# Altium footprint library 晶振封装库.PcbLib: 82 footprints (part 1 of 6)
Each footprint in its own frame and in the unit in brackets; x right, y up, seen from the top. Pads: shape width x height; smd on the part's side, far side on the other; paste and mask are expansions set on the pad; w line width, h text height; cw(c..) or ccw(c..) is an arc to the next point about the centre after c.
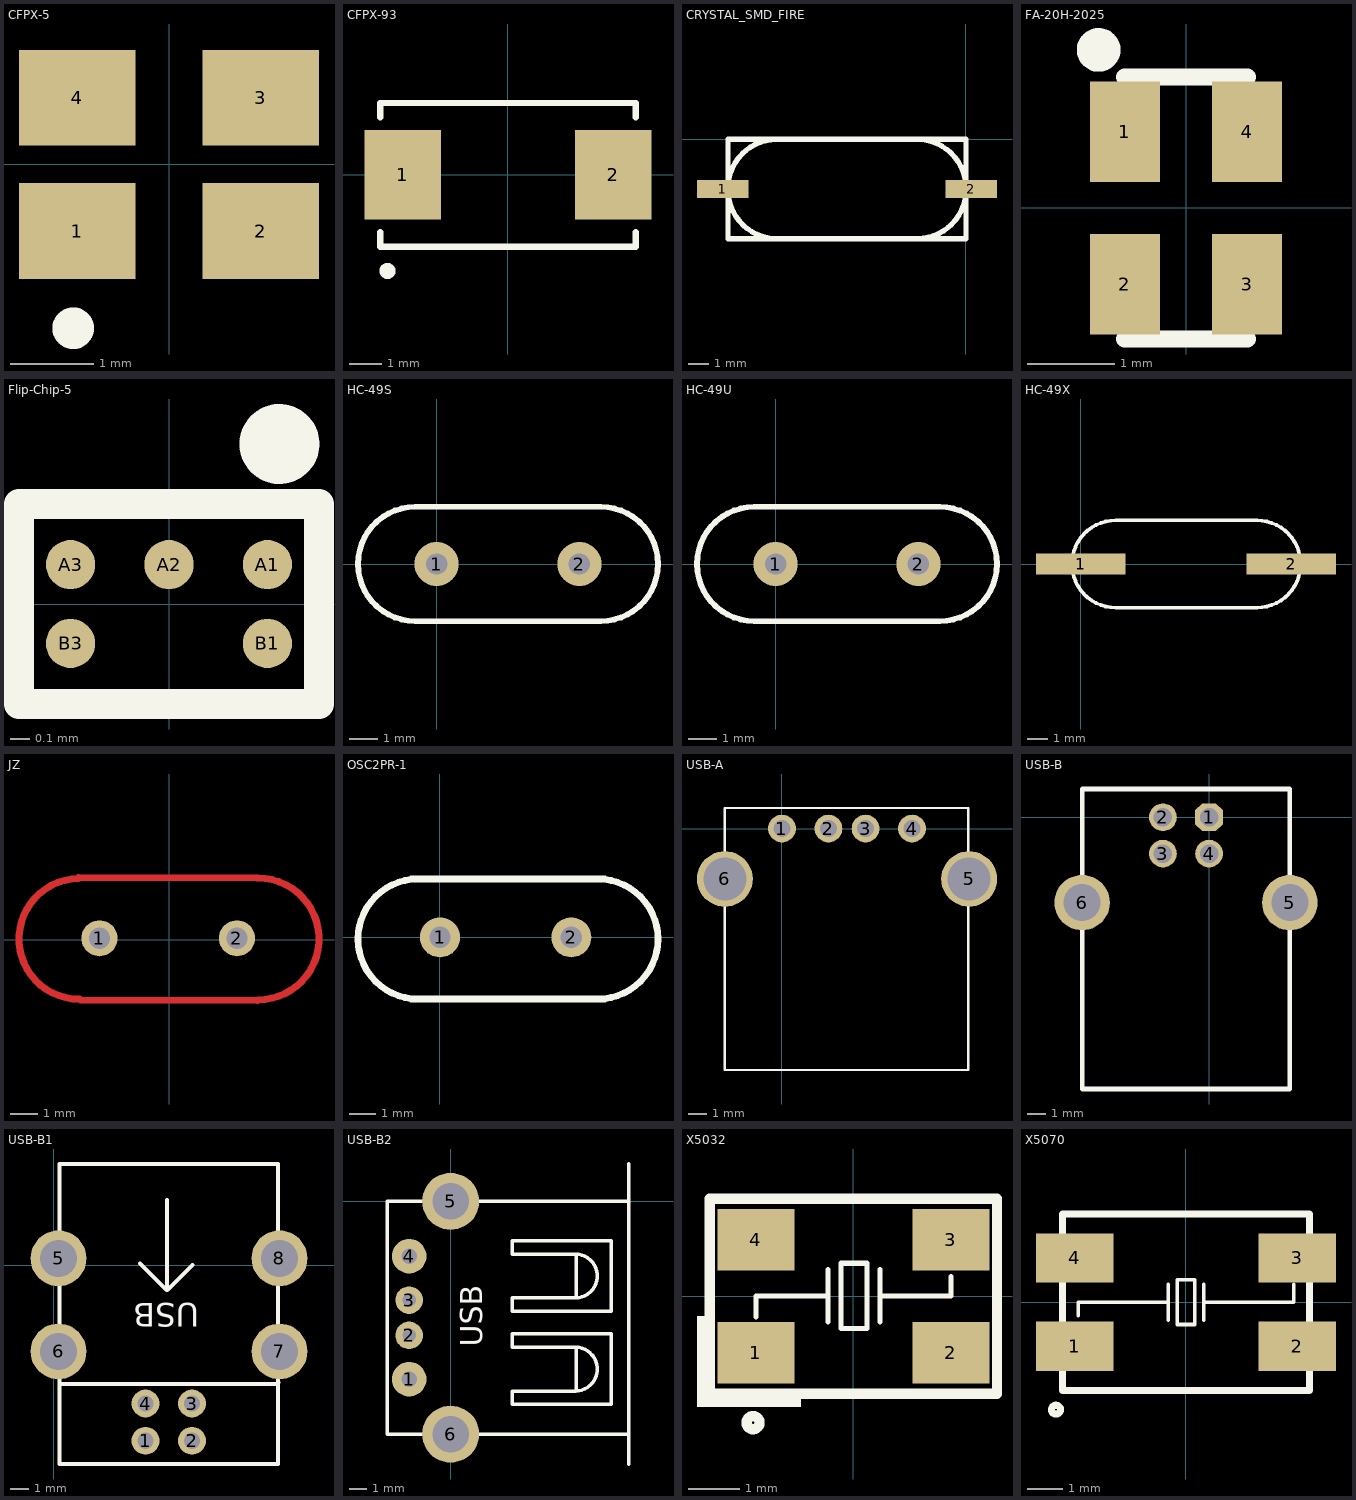
[diagram p0: the footprints below, top view; thin cyan lines are the x and y axes]

## CFPX-5 [mm]
pads (4):
  rect 1.4x1.15 smd: 1(-1.1,-0.8) 2(1.1,-0.8) 3(1.1,0.8) 4(-1.1,0.8)
Top Overlay:
  circle w0.25: c-1.15,-1.967 r0.125

## CFPX-93 [mm]
pads (2):
  rect 2.4x2.8 smd: 1(-3.3,0) 2(3.3,0)
Top Overlay:
  circle w0.25: c-3.775,-3.011 r0.125
  lines w0.2: -4,-1.8 -4,-2.25 4,-2.25 4,-1.8 ; -4,1.8 -4,2.25 4,2.25 4,1.8

## CRYSTAL_SMD_FIRE [mm]
pads (2):
  rect 2.5x0.85 smd: 1(-11.75,-2.4) 2(0.25,-2.4)
Top Overlay:
  lines w0.254: -11.5,-2.469 -11.5,-2.4 ; -11.5,-2.468 ccw(c-9.135,-2.435) -9.102,-4.8 ; -11.5,-2.398 cw(c-9.135,-2.365) -9.168,0 ; -2.398,0 cw(c-2.365,-2.365) 0,-2.332 ; -2.332,-4.8 ccw(c-2.365,-2.435) 0,-2.402 ; 0,-2.4 0,-2.331 ; -11.5,-4.8 -11.5,0 0,0 0,-4.8 -11.5,-4.8

## FA-20H-2025 [mm]
height 0.5
pads (4):
  rect 0.8x1.15 smd: 1(-0.7,0.875) 2(-0.7,-0.875) 3(0.7,-0.875) 4(0.7,0.875)
Top Overlay:
  circle w0.25: c-1,1.81 r0.125
  lines w0.2: -0.7,-1.5 0.7,-1.5 ; -0.7,1.5 0.7,1.5
3D body "FA-20H-2025.STEP": height 0.5, standoff 0, extent -1.005,-1.25 0.995,1.25

## Flip-Chip-5 [mm]
height 0.69
pads (5):
  round 0.25 smd mask+0.05: A1(0.5,0.2) A2(0,0.2) A3(-0.5,0.2) B1(0.5,-0.2) B3(-0.5,-0.2)
Top Overlay:
  circle w0.203: c0.561,0.813 r0.102
  lines w0.152: -0.762,-0.508 0.762,-0.508 0.762,0.508 -0.762,0.508 -0.762,-0.508
3D body "FlipChip-5.STEP": height 0.69, standoff 0, extent -0.693,-0.425 0.693,0.43

## HC-49S [mil]
pads (2):
  round 62 hole 30: 1(0,0) 2(200,0)
Top Overlay:
  lines w8: -30,-80 cw(c-30,0) -30,80 230,80 cw(c230,0) 230,-80 -30,-80

## HC-49U [mil]
pads (2):
  round 62 hole 30: 1(0,0) 2(200,0)
Top Overlay:
  lines w8: -30,-80 cw(c-30,0) -30,80 230,80 cw(c230,0) 230,-80 -30,-80

## HC-49X [mm]
pads (2):
  rect 4.3x1 smd: 1(0,0) 2(10.135,0)
Top Overlay:
  lines w0.178: 1.68,-2.1 cw(c1.68,0) 1.68,2.1 8.48,2.1 cw(c8.48,0) 8.48,-2.1 1.68,-2.1

## JZ [mm]
pads (2):
  round 1.3 hole 0.762: 1(-2.517,0.055) 2(2.436,0.055)
Top Layer:
  lines w0.254: -3.274,2.24 3.16,2.22 ; -3.272,2.208 ccw(c-3.24,0.034) -3.24,-2.14 ; -3.2,-2.16 3.18,-2.18 ; 3.2,-2.16 ccw(c3.2,0.032) 3.2,2.225

## OSC2PR-1 [mil]
pads (2):
  round 60 hole 32: 1(0.42,-0.46) 2(197.42,-0.46)
Top Overlay:
  lines w10: -42.58,-92.96 247.42,-92.96 ; -42.58,87.04 247.42,87.04 ; -32.58,-92.96 cw(c-32.58,-2.96) -32.58,87.04 ; 237.42,-92.96 ccw(c237.42,-2.96) 237.42,87.04

## USB-A [mm]
pads (6):
  round 1.5 hole 0.92: 1(0.004,0.013) 2(2.504,0.013) 3(4.504,0.013) 4(7.004,0.013)
  round 3 hole 2.3: 5(10.074,-2.697) 6(-3.066,-2.697)
Top Overlay:
  lines w0.127: -3.066,-12.977 -3.066,-2.697 -3.066,1.123 10.034,1.123 10.034,-12.977 -3.066,-12.977

## USB-B [mil]
pads (6):
  oct 60x60 hole 40: 1(0.02,-0.17)
  round 60 hole 40: 2(-99.98,-0.17) 3(-99.98,-78.91) 4(0.02,-78.91)
  round 120 hole 80: 5(175.02,-185.2) 6(-274.98,-185.2)
Top Overlay:
  lines w10: -274.98,-588.91 175.02,-588.91 175.02,61.09 -274.98,61.09 -274.98,-588.91

## USB-B1 [mil]
pads (8):
  round 60 hole 35: 1(197,-377) 2(297,-377) 3(297,-297) 4(197,-297)
  round 120 hole 80: 5(10,15) 6(10,-185) 7(485,-185) 8(485,15)
Top Overlay:
  lines w8: 12,-255 482,-255 483,-251 ; 185,4 241,-52 ; 243,-53 243,141 ; 244,-53 298,1 ; 12,-427 482,-427 482,218 12,218 12,-427
  text "USB" at 312,-81 h50

## USB-B2 [mil]
pads (6):
  round 78.74 hole 35.43: 1(-94.49,-405) 4(-94.49,-125)
  round 62.99 hole 31.5: 2(-94.49,-305) 3(-94.49,-225)
  round 129.92 hole 82.68: 5(0,0) 6(0,-530)
Top Overlay:
  lines w8: 285.51,-430 285.51,-334 ; 285.51,-218 285.51,-122 ; 405.51,-598 405.51,85 ; 405.51,-530 -144.49,-530 -144.49,0 405.51,0 ; 140.51,-462 365.51,-462 365.51,-302 140.51,-302 140.51,-332 284.3,-332 cw(c283.77,-382) 284.3,-432 140.51,-432 140.51,-462 ; 140.51,-250 365.51,-250 365.51,-90 140.51,-90 140.51,-120 284.3,-120 cw(c283.77,-170) 284.3,-220 140.51,-220 140.51,-250
  text "USB" at 71.51,-331 h50

## X5032 [mm]
pads (4):
  rect 1.5x1.2 smd: 1(-1.9,-1.1) 2(1.9,-1.1) 3(1.9,1.1) 4(-1.9,1.1)
Top Overlay:
  circle w0.2: c-1.956,-2.464 r0.127
  rectangle: -3.048,-2.159 -2.87,-0.381
  rectangle: -3.023,-2.159 -1.016,-1.905
  lines w0.1: -1.897,-0.406 -1.897,0.008 -0.496,0.008 ; -0.496,-0.5 -0.496,0.516 ; 0.52,-0.5 0.52,0.516 ; 0.52,0.008 1.902,0.008 1.905,0.016 1.905,0.381 ; -0.242,-0.627 0.266,-0.627 0.266,-0.309 0.266,0.326 0.266,0.643 -0.242,0.643 -0.242,-0.627
  lines w0.2: -2.8,-1.9 -2.8,1.9 2.8,1.9 2.8,-1.9 -2.8,-1.9
3D body "User Library-CRYSTALSMD5X32.STEP": height 1, standoff 0, extent -2.5,-1.6 2.5,1.6

## X5070 [mm]
pads (4):
  rect 2.2x1.4 smd: 1(-3.15,-1.25) 2(3.15,-1.25) 3(3.15,1.25) 4(-3.15,1.25)
Top Overlay:
  circle w0.2: c-3.683,-3.048 r0.127
  lines w0.1: -3.048,-0.381 -3.048,0 -0.508,0 ; -0.508,-0.508 -0.508,0.508 ; 0.508,-0.508 0.508,0.508 ; 0.508,0 3.048,0 3.048,0.508 ; -0.254,-0.635 0.254,-0.635 0.254,0.635 -0.254,0.635 -0.254,-0.635
  lines w0.2: -3.5,-2.5 -3.5,2.5 3.5,2.5 3.5,-2.5 -3.5,-2.5
3D body "User Library-GeyerElectronics_KX13.STEP": height 1.31, standoff 0, extent -3.576,-2.54 3.424,2.46